# Altium schematic symbol library Chronos.SchLib: 154 symbols (part 3 of 4)
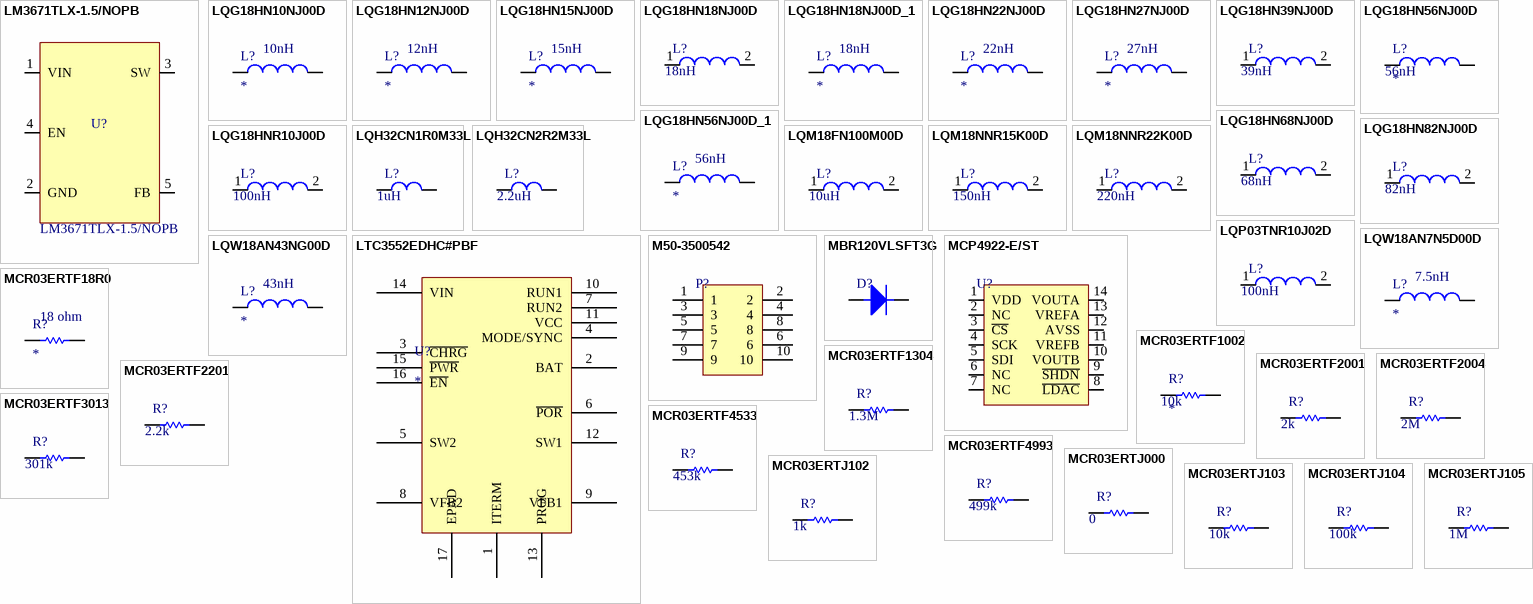
[diagram p5: symbols LM3671TLX-1.5/NOPB to MCR03ERTJ105]

## LQG18HNR10J00D
designator L?  (value not drawn)
INDUCTOR 100NH 300MA 0603; Manufacturer: Murata Electronics North America; Manufacturer Part Number: LQG18HNR10J00D; Type: Multilayer; Material - Core: Air; Tolerance: ±5%; Shielding: Unshielded; DC Resistance (DCR): 900 mOhm Max; Q @ Freq: 12 @ 100MHz; Frequency - Self Resonant: 800MHz; Frequency - Test: 100MHz; Supplier 1: Digi-Key; RoHS: RoHS Compliant; Category: Inductors, Coils, Chokes; Stock 1: 8292; Pricing 1: 1=0.26, 10=0.24, 25=0.216, 50=0.1872, 100=0.168, 250=0.156, 500=0.144, 750=0.1368, 1000=0.1248 (USD); Packaging: Cut Tape (CT); Inductance: 100nH; Current Rating: 300mA; Current - Saturation: -; Operating Temperature: -40°C ~ 85°C; Mounting Type: Surface Mount; Package / Case: 0603 (1608 Metric); Size / Dimension: 0.063" L x 0.031" W (1.60mm x 0.80mm); Height - Seated (Max): 0.037" (0.95mm); Supplier Device Package: 0603 (1608 Metric); ComponentLink1URL: http://search.murata.co.jp/Ceramy/image/img/PDF/ENG/L0075S0083LQG18H.pdf; ComponentLink1Description: http://search.murata.co.jp/Ceramy/image/img/PDF/ENG/L0075S0083LQG18H.pdf
footprint INDC1608X08N (Chip Inductor, 2-Leads, Body 1.60x0.80mm, IPC Medium Density)
pins: 1, 2

## LQH32CN1R0M33L
designator L?  (value not drawn)
FIXED IND 1UH 1A 60 MOHM SMD; Manufacturer: Murata Electronics North America; Manufacturer Part Number: LQH32CN1R0M33L; Type: Wirewound; Material - Core: Ferrite; Inductance: 1µH; Tolerance: ±20%; Shielding: Unshielded; DC Resistance (DCR): 60 mOhm; Frequency - Self Resonant: 100MHz; Frequency - Test: 1MHz; Supplier 1: Digi-Key; RoHS: RoHS Compliant; Category: Inductors, Coils, Chokes; Stock 1: 6090; Pricing 1: 1=0.32, 10=0.291, 25=0.2584, 50=0.2262, 100=0.21, 250=0.1938, 500=0.18412, 750=0.16796, 1000=0.14858 (USD); Packaging: Cut Tape (CT); Current Rating: 1A; Current - Saturation: -; Q @ Freq: -; Operating Temperature: -40°C ~ 85°C; Mounting Type: Surface Mount; Package / Case: 1210 (3225 Metric); Size / Dimension: 0.126" L x 0.098" W (3.20mm x 2.50mm); Height - Seated (Max): 0.086" (2.20mm); Supplier Device Package: 1210 (3225 Metric); ComponentLink1URL: http://search.murata.co.jp/Ceramy/image/img/PDF/ENG/L0080S0140LQH32C_23~33.pdf; ComponentLink1Description: http://search.murata.co.jp/Ceramy/image/img/PDF/ENG/L0080S0140LQH32C_23~33.pdf
footprint INDC3225X22N (Chip Inductor, 2-Leads, Body 3.20x2.50mm, IPC Medium Density)
pins: 1, 2
text: 1uH

## LQH32CN2R2M33L
designator L?  (value not drawn)
FIXED IND 2.2UH 790MA 97 MOHM; Manufacturer: Murata Electronics North America; Manufacturer Part Number: LQH32CN2R2M33L; Type: Wirewound; Material - Core: Ferrite; Inductance: 2.2µH; Tolerance: ±20%; Shielding: Unshielded; DC Resistance (DCR): 97 mOhm; Frequency - Self Resonant: 64MHz; Frequency - Test: 1MHz; Supplier 1: Digi-Key; RoHS: RoHS Compliant; Category: Inductors, Coils, Chokes; Stock 1: 5783; Pricing 1: 1=0.32, 10=0.291, 25=0.2584, 50=0.2262, 100=0.21, 250=0.1938, 500=0.18412, 750=0.16796, 1000=0.14858 (USD); Packaging: Cut Tape (CT); Current Rating: 790mA; Current - Saturation: -; Q @ Freq: -; Operating Temperature: -40°C ~ 85°C; Mounting Type: Surface Mount; Package / Case: 1210 (3225 Metric); Size / Dimension: 0.126" L x 0.098" W (3.20mm x 2.50mm); Height - Seated (Max): 0.086" (2.20mm); Supplier Device Package: 1210 (3225 Metric); ComponentLink1URL: http://search.murata.co.jp/Ceramy/image/img/PDF/ENG/L0080S0140LQH32C_23~33.pdf; ComponentLink1Description: http://search.murata.co.jp/Ceramy/image/img/PDF/ENG/L0080S0140LQH32C_23~33.pdf
footprint INDC3225X22N (Chip Inductor, 2-Leads, Body 3.20x2.50mm, IPC Medium Density)
pins: 1, 2
text: 2.2uH

## LQM18FN100M00D
designator L?  (value not drawn)
INDUCTOR 10UH 50MA 0603; Manufacturer: Murata Electronics North America; Manufacturer Part Number: LQM18FN100M00D; Type: Multilayer; Inductance: 10µH; Tolerance: ±20%; Shielding: Shielded; DC Resistance (DCR): 900 mOhm; Frequency - Self Resonant: 30MHz; Frequency - Test: 1MHz; Supplier 1: Digi-Key; RoHS: RoHS Compliant; Category: Inductors, Coils, Chokes; Stock 1: 28547; Pricing 1: 1=0.14, 10=0.13, 25=0.1164, 50=0.101, 100=0.0907, 250=0.08416, 500=0.0777, 750=0.07381, 1000=0.06734 (USD); Packaging: Cut Tape (CT); Material - Core: -; Current Rating: 50mA; Current - Saturation: -; Q @ Freq: -; Operating Temperature: -55°C ~ 125°C; Mounting Type: Surface Mount; Package / Case: 0603 (1608 Metric); Size / Dimension: 0.063" L x 0.031" W (1.60mm x 0.80mm); Height - Seated (Max): 0.035" (0.90mm); Supplier Device Package: 0603 (1608 Metric); ComponentLink1URL: http://search.murata.co.jp/Ceramy/image/img/PDF/ENG/L0075S0097LQM18F.pdf; ComponentLink1Description: http://search.murata.co.jp/Ceramy/image/img/PDF/ENG/L0075S0097LQM18F.pdf
footprint INDC1608X08N (Chip Inductor, 2-Leads, Body 1.60x0.80mm, IPC Medium Density)
pins: 1, 2
text: 10uH

## LQM18NNR15K00D
designator L?  (value not drawn)
INDUCTOR 150NH 50MA 0603; Manufacturer: Murata Electronics North America; Manufacturer Part Number: LQM18NNR15K00D; Type: Multilayer; Material - Core: Ferrite; Tolerance: ±10%; Shielding: Shielded; DC Resistance (DCR): 600 mOhm Max; Q @ Freq: 15 @ 25MHz; Frequency - Self Resonant: 180MHz; Frequency - Test: 25MHz; Supplier 1: Digi-Key; RoHS: RoHS Compliant; Category: Inductors, Coils, Chokes; Stock 1: 13573; Pricing 1: 1=0.21, 10=0.193, 25=0.1736, 50=0.1506, 100=0.1351, 250=0.12544, 500=0.1158, 750=0.11001, 1000=0.10036 (USD); Packaging: Cut Tape (CT); Inductance: 150nH; Current Rating: 50mA; Current - Saturation: -; Operating Temperature: -40°C ~ 85°C; Mounting Type: Surface Mount; Package / Case: 0603 (1608 Metric); Size / Dimension: 0.063" L x 0.031" W (1.60mm x 0.80mm); Height - Seated (Max): 0.035" (0.90mm); Supplier Device Package: 0603 (1608 Metric); ComponentLink1URL: http://search.murata.co.jp/Ceramy/image/img/PDF/ENG/L0075S0092LQM18N.pdf; ComponentLink1Description: http://search.murata.co.jp/Ceramy/image/img/PDF/ENG/L0075S0092LQM18N.pdf
footprint INDC1608X08N (Chip Inductor, 2-Leads, Body 1.60x0.80mm, IPC Medium Density)
pins: 1, 2

## LQM18NNR22K00D
designator L?  (value not drawn)
INDUCTOR 220NH 50MA 0603; Manufacturer: Murata Electronics North America; Manufacturer Part Number: LQM18NNR22K00D; Type: Multilayer; Material - Core: Ferrite; Tolerance: ±10%; Shielding: Shielded; DC Resistance (DCR): 800 mOhm Max; Q @ Freq: 15 @ 25MHz; Frequency - Self Resonant: 150MHz; Frequency - Test: 25MHz; Supplier 1: Digi-Key; RoHS: RoHS Compliant; Category: Inductors, Coils, Chokes; Stock 1: 10133; Pricing 1: 1=0.21, 10=0.193, 25=0.1736, 50=0.1506, 100=0.1351, 250=0.12544, 500=0.1158, 750=0.11001, 1000=0.10036 (USD); Packaging: Cut Tape (CT); Inductance: 220nH; Current Rating: 50mA; Current - Saturation: -; Operating Temperature: -40°C ~ 85°C; Mounting Type: Surface Mount; Package / Case: 0603 (1608 Metric); Size / Dimension: 0.063" L x 0.031" W (1.60mm x 0.80mm); Height - Seated (Max): 0.035" (0.90mm); Supplier Device Package: 0603 (1608 Metric); ComponentLink1URL: http://search.murata.co.jp/Ceramy/image/img/PDF/ENG/L0075S0092LQM18N.pdf; ComponentLink1Description: http://search.murata.co.jp/Ceramy/image/img/PDF/ENG/L0075S0092LQM18N.pdf
footprint INDC1608X08N (Chip Inductor, 2-Leads, Body 1.60x0.80mm, IPC Medium Density)
pins: 1, 2

## LQP03TNR10J02D
designator L?  (value not drawn)
FIXED IND 100NH 80MA 10 OHM SMD; Manufacturer: Murata Electronics North America; Manufacturer Part Number: LQP03TNR10J02D; Type: Thin Film; Material - Core: Non-Magnetic; Tolerance: ±5%; Shielding: Unshielded; DC Resistance (DCR): 10 Ohm Max; Q @ Freq: 8 @ 300MHz; Frequency - Self Resonant: 900MHz; Frequency - Test: 300MHz; Supplier 1: Digi-Key; RoHS: RoHS Compliant; Category: Inductors, Coils, Chokes; Stock 1: 45163; Pricing 1: 1=0.1, 10=0.05, 25=0.0452, 50=0.0406, 100=0.0351, 250=0.03152, 500=0.02926, 750=0.027, 1000=0.02565 (USD); Packaging: Cut Tape (CT); Inductance: 100nH; Current Rating: 80mA; Current - Saturation: -; Ratings: -; Operating Temperature: -55°C ~ 125°C; Mounting Type: Surface Mount; Package / Case: 0201 (0603 Metric); Size / Dimension: 0.024" L x 0.012" W (0.60mm x 0.30mm); Height - Seated (Max): 0.013" (0.33mm); ComponentLink1URL: http://search.murata.co.jp/Ceramy/image/img/P02/JELF243C-0015.pdf; ComponentLink1Description: http://search.murata.co.jp/Ceramy/image/img/P02/JELF243C-0015.pdf; Supplier Part Number 1: 490-6742-1-ND
footprint INDC1608X08N (Chip Inductor, 2-Leads, Body 1.60x0.80mm, IPC Medium Density)
pins: 1, 2

## LQW18AN7N5D00D
designator L?  value 7.5nH
FIXED IND 7.5NH 750MA 82 MOHM; Manufacturer: Murata Electronics North America; Manufacturer Part Number: LQW18AN7N5D00D; Type: Wirewound; Material - Core: Non-Magnetic; Tolerance: ±0.5nH; Shielding: Unshielded; DC Resistance (DCR): 82 mOhm Max; Q @ Freq: 35 @ 250MHz; Frequency - Self Resonant: 6GHz; Frequency - Test: 100MHz; Supplier 1: Digi-Key; RoHS: RoHS Compliant; Category: Inductors, Coils, Chokes; Stock 1: 6284; Pricing 1: 1=0.17, 10=0.15, 25=0.1352, 50=0.117, 100=0.105, 250=0.09752, 500=0.09, 750=0.08551, 1000=0.078 (USD); Packaging: Cut Tape (CT); Inductance: 7.5nH; Current Rating: 750mA; Current - Saturation: -; Ratings: -; Operating Temperature: -55°C ~ 125°C; Mounting Type: Surface Mount; Package / Case: 0603 (1608 Metric); Size / Dimension: 0.063" L x 0.031" W (1.60mm x 0.80mm); Height - Seated (Max): 0.039" (1.00mm); ComponentLink1URL: http://search.murata.co.jp/Ceramy/image/img/PDF/ENG/L0075S0080LQW18A_00.pdf; ComponentLink1Description: http://search.murata.co.jp/Ceramy/image/img/PDF/ENG/L0075S0080LQW18A_00.pdf; Supplier Part Number 1: 490-1166-1-ND
footprint INDC1608X08N (Chip Inductor, 2-Leads, Body 1.60x0.80mm, IPC Medium Density)
pins: 1, 2

## LQW18AN43NG00D
designator L?  value 43nH
FIXED IND 43NH 380MA 290 MOHM; Manufacturer: Murata Electronics North America; Manufacturer Part Number: LQW18AN43NG00D; Type: Wirewound; Material - Core: Non-Magnetic; Tolerance: ±2%; Shielding: Unshielded; DC Resistance (DCR): 290 mOhm Max; Q @ Freq: 40 @ 200MHz; Frequency - Self Resonant: 2.7GHz; Frequency - Test: 100MHz; Supplier 1: Digi-Key; RoHS: RoHS Compliant; Category: Inductors, Coils, Chokes; Stock 1: 7260; Pricing 1: 1=0.18, 10=0.165, 25=0.1484, 50=0.1288, 100=0.1155, 250=0.10724, 500=0.099, 750=0.09405, 1000=0.0858 (USD); Packaging: Cut Tape (CT); Inductance: 43nH; Current Rating: 380mA; Current - Saturation: -; Ratings: -; Operating Temperature: -55°C ~ 125°C; Mounting Type: Surface Mount; Package / Case: 0603 (1608 Metric); Size / Dimension: 0.063" L x 0.031" W (1.60mm x 0.80mm); Height - Seated (Max): 0.039" (1.00mm); ComponentLink1URL: http://search.murata.co.jp/Ceramy/image/img/PDF/ENG/L0075S0080LQW18A_00.pdf; ComponentLink1Description: http://search.murata.co.jp/Ceramy/image/img/PDF/ENG/L0075S0080LQW18A_00.pdf; Supplier Part Number 1: 490-6892-1-ND
footprint INDC1608X08N (Chip Inductor, 2-Leads, Body 1.60x0.80mm, IPC Medium Density)
pins: 1, 2

## LTC3552EDHC#PBF
designator U?
IC CHARGER BATT LI-ION 16-DFN; Manufacturer: Linear Technology; Manufacturer Part Number: LTC3552EDHC#PBF; Function: Charge Management; Voltage - Supply: 4.25 V ~ 8 V; Supplier 1: Digi-Key; RoHS: RoHS Compliant; Category: Integrated Circuits (ICs); Stock 1: 0; Pricing 1: 584=2.71 (USD); Packaging: Tube; Battery Chemistry: Li-Ion; Operating Temperature: -40°C ~ 85°C; Mounting Type: Surface Mount; Package / Case: 16-WFDFN Exposed Pad; Supplier Device Package: 16-DFN (5x3); ComponentLink1URL: http://cds.linear.com/docs/en/datasheet/3552f.pdf; ComponentLink1Description: http://cds.linear.com/docs/en/datasheet/3552f.pdf
footprint DFN16P5MMX3MM (SON, 16-Leads, Body 5.00x3.00mm, Pitch 0.50mm, Thermal Pad 4.40x1.09mm, IPC Medium Density)
pins: 1 ITERM, 2 BAT, 3 ~{CHRG}, 4 MODE/SYNC, 5 SW2, 6 ~{POR}, 7 RUN2, 8 VFB2, 9 VFB1, 10 RUN1, 11 VCC, 12 SW1, 13 PROG, 14 VIN, 15 ~{PWR}, 16 ~{EN}, 17 EPAD

## M50-3500542
designator P?  (value not drawn)
CONN HDR 1.27MM VERT AU 10POS; Manufacturer: Harwin Inc; Manufacturer Part Number: M50-3500542; Connector Type: Unshrouded; Number of Positions: 10; Number of Positions Loaded: All; Pitch: 0.050" (1.27mm); Molding Height Above Board: 0.039" (1.00mm); Supplier 1: Digi-Key; RoHS: RoHS Compliant; Category: Connectors, Interconnects; Stock 1: 16006; Pricing 1: 1=1.16, 10=1.017, 25=0.9576, 50=0.9178, 100=0.8778, 250=0.798, 500=0.7182, 1000=0.6384, 2500=0.57855 (USD); Packaging: Bulk; Number of Rows: 2; Row Spacing: 0.050" (1.27mm); Height Stacking (Mating): -; Contact Mating Length: 0.118" (3.00mm); Mounting Type: Through Hole; Termination: Solder; Contact Finish: Gold; Contact Finish Thickness: 5.9µin (0.15µm); Features: -; Color: Black; ComponentLink1URL: http://harwin.com/includes/pdfs/M50-350.pdf; ComponentLink1Description: http://harwin.com/includes/pdfs/M50-350.pdf
footprint M50
pins: 1, 2, 3, 4, 5, 6, 7, 8, 9, 10

## MBR120VLSFT3G
designator D?  (value not drawn)
DIODE SCHOTTKY 20V 1A SOD123FL; Manufacturer: ON Semiconductor; Manufacturer Part Number: MBR120VLSFT3G; Voltage - Forward (Vf) (Max) @ If: 340mV @ 1A; Speed: Fast Recovery =< 500ns, > 200mA (Io); Current - Reverse Leakage @ Vr: 600µA @ 20V; Supplier 1: Digi-Key; RoHS: RoHS Compliant; Category: Discrete Semiconductor Products; Stock 1: 29828; Pricing 1: 1=0.38, 10=0.305, 100=0.2082, 500=0.15586, 1000=0.11674 (USD); Packaging: Cut Tape (CT); Diode Type: Schottky; Voltage - DC Reverse (Vr) (Max): 20V; Current - Average Rectified (Io): 1A; Reverse Recovery Time (trr): -; Capacitance @ Vr, F: -; Mounting Type: Surface Mount; Package / Case: SOD-123F; Supplier Device Package: SOD-123FL; Operating Temperature - Junction: -65°C ~ 125°C; ComponentLink1URL: http://www.onsemi.com/pub_link/Collateral/MBR120VLSFT1-D.PDF; ComponentLink1Description: http://www.onsemi.com/pub_link/Collateral/MBR120VLSFT1-D.PDF; Supplier Part Number 1: MBR120VLSFT3GOSCT-ND
footprint SODFL360X98-2N (SODFL, 2-Leads, Body 1.65x3.60mm, IPC Medium Density)
pins: 1, 2

## MCP4922-E/ST
designator U?  (value not drawn)
IC DAC 12BIT DUAL W/SPI 14TSSOP; Manufacturer: Microchip Technology; Manufacturer Part Number: MCP4922-E/ST; Settling Time: 4.5µs; Number of Bits: 12; Data Interface: Serial, SPI™; Number of Converters: 2; Voltage Supply Source: Single Supply; Number of Outputs and Type: 2 Voltage, Unipolar; 2 Voltage, Bipolar; Supplier 1: Digi-Key; RoHS: RoHS Compliant; Category: Integrated Circuits (ICs); Stock 1: 461; Pricing 1: 1=3.14, 10=2.62, 25=2.19, 100=1.99 (USD); Packaging: Tube; Operating Temperature: -40°C ~ 125°C; Mounting Type: Surface Mount; Package / Case: 14-TSSOP (0.173", 4.40mm Width); Supplier Device Package: 14-TSSOP; Sampling Rate (Per Second): *; ComponentLink1URL: http://www.microchip.com/mymicrochip/filehandler.aspx?ddocname=en547858; ComponentLink1Description: http://www.microchip.com/mymicrochip/filehandler.aspx?ddocname=en547858
footprint TSOP65P640X110-14N (TSOP, 14-Leads, Body 5.00x4.40mm, Pitch 0.65mm, IPC Medium Density)
pins: 1 VDD, 2 NC, 3 ~{CS}, 4 SCK, 5 SDI, 6 NC, 7 NC, 8 ~{LDAC}, 9 ~{SHDN}, 10 VOUTB, 11 VREFB, 12 AVSS, 13 VREFA, 14 VOUTA

## MCR03ERTF18R0
designator R?  value 18 ohm
RES SMD 18 OHM 1% 1/10W 0603; Manufacturer: Rohm Semiconductor; Manufacturer Part Number: MCR03ERTF18R0; Resistance (Ohms): 18; Power (Watts): 0.1W, 1/10W; Temperature Coefficient: ±100ppm/°C; Supplier 1: Digi-Key; RoHS: RoHS Compliant; Category: Resistors; Stock 1: 15000; Pricing 1: 5000=0.0026, 10000=0.00226, 25000=0.00199, 50000=0.00182, 125000=0.00179 (USD); Packaging: Tape & Reel (TR); Tolerance: ±1%; Composition: Thick Film; Features: -; Operating Temperature: -55°C ~ 155°C; Package / Case: 0603 (1608 Metric); Supplier Device Package: 0603 (1608 Metric); Size / Dimension: 0.063" L x 0.031" W (1.60mm x 0.80mm); Height: 0.022" (0.55mm); Number of Terminations: 2; ComponentLink1URL: http://rohmfs.rohm.com/en/products/databook/datasheet/passive/resistor/chip_resistor/mcr_g.pdf; ComponentLink1Description: http://rohmfs.rohm.com/en/products/databook/datasheet/passive/resistor/chip_resistor/mcr_g.pdf; Supplier Part Number 1: RHM18CFTR-ND
footprint RESC1608X06N (0603) (Chip Resistor, 2-Leads, Body 1.60x0.80mm, IPC Medium Density)
pins: 1, 2

## MCR03ERTF1002
designator R?  value 10k
RES SMD 10K OHM 1% 1/10W 0603; Manufacturer: Rohm Semiconductor; Manufacturer Part Number: MCR03ERTF1002; Power (Watts): 0.1W, 1/10W; Temperature Coefficient: ±100ppm/°C; Supplier 1: Digi-Key; RoHS: RoHS Compliant; Category: Resistors; Stock 1: 30590; Pricing 1: 1=0.1, 10=0.022, 25=0.016, 100=0.0089, 250=0.0068, 500=0.00542, 1000=0.00399 (USD); Packaging: Digi-Reel®; Resistance (Ohms): 10k; Tolerance: ±1%; Composition: Thick Film; Features: -; Operating Temperature: -55°C ~ 155°C; Package / Case: 0603 (1608 Metric); Supplier Device Package: 0603 (1608 Metric); Size / Dimension: 0.063" L x 0.031" W (1.60mm x 0.80mm); Height: 0.022" (0.55mm); Number of Terminations: 2; ComponentLink1URL: http://rohmfs.rohm.com/en/products/databook/datasheet/passive/resistor/chip_resistor/mcr_g.pdf; ComponentLink1Description: http://rohmfs.rohm.com/en/products/databook/datasheet/passive/resistor/chip_resistor/mcr_g.pdf; Supplier Part Number 1: RHM10.0KCFDKR-ND
footprint RESC1608X06N (0603) (Chip Resistor, 2-Leads, Body 1.60x0.80mm, IPC Medium Density)
pins: 1, 2

## MCR03ERTF1304
designator R?  (value not drawn)
RES SMD 1.3M OHM 1% 1/10W 0603; Manufacturer: Rohm Semiconductor; Manufacturer Part Number: MCR03ERTF1304; Power (Watts): 0.1W, 1/10W; Temperature Coefficient: ±100ppm/°C; Supplier 1: Digi-Key; RoHS: RoHS Compliant; Category: Resistors; Stock 1: 9271; Pricing 1: 1=0.1, 10=0.011, 25=0.0084, 100=0.0047, 250=0.00356, 500=0.00286, 1000=0.0021 (USD); Packaging: Cut Tape (CT); Resistance (Ohms): 1.3M; Tolerance: ±1%; Composition: Thick Film; Features: -; Operating Temperature: -55°C ~ 155°C; Package / Case: 0603 (1608 Metric); Supplier Device Package: 0603 (1608 Metric); Size / Dimension: 0.063" L x 0.031" W (1.60mm x 0.80mm); Height: 0.022" (0.55mm); Number of Terminations: 2; ComponentLink1URL: http://rohmfs.rohm.com/en/products/databook/datasheet/passive/resistor/chip_resistor/mcr_g.pdf; ComponentLink1Description: http://rohmfs.rohm.com/en/products/databook/datasheet/passive/resistor/chip_resistor/mcr_g.pdf
footprint RESC1608X06N (0603) (Chip Resistor, 2-Leads, Body 1.60x0.80mm, IPC Medium Density)
pins: 1, 2

## MCR03ERTF2001
designator R?  (value not drawn)
RES 2K OHM 1/10W 1% 0603 SMD; Manufacturer: Rohm Semiconductor; Manufacturer Part Number: MCR03ERTF2001; Power (Watts): 0.1W, 1/10W; Temperature Coefficient: ±100ppm/°C; Supplier 1: Digi-Key; RoHS: RoHS Compliant; Category: Resistors; Stock 1: 84360; Pricing 1: 1=0.1, 10=0.011, 25=0.0084, 100=0.0047, 250=0.00356, 500=0.00286, 1000=0.0021 (USD); Packaging: Cut Tape (CT); Resistance (Ohms): 2k; Tolerance: ±1%; Composition: Thick Film; Features: -; Operating Temperature: -55°C ~ 155°C; Package / Case: 0603 (1608 Metric); Supplier Device Package: 0603 (1608 Metric); Size / Dimension: 0.063" L x 0.031" W (1.60mm x 0.80mm); Height: 0.022" (0.55mm); Number of Terminations: 2; ComponentLink1URL: http://rohmfs.rohm.com/en/products/databook/datasheet/passive/resistor/chip_resistor/mcr_g.pdf; ComponentLink1Description: http://rohmfs.rohm.com/en/products/databook/datasheet/passive/resistor/chip_resistor/mcr_g.pdf
footprint RESC1608X06N (0603) (Chip Resistor, 2-Leads, Body 1.60x0.80mm, IPC Medium Density)
pins: 1, 2

## MCR03ERTF2004
designator R?  (value not drawn)
RES 2M OHM 1/10W 1% 0603 SMD; Manufacturer: Rohm Semiconductor; Manufacturer Part Number: MCR03ERTF2004; Power (Watts): 0.1W, 1/10W; Temperature Coefficient: ±200ppm/°C; Supplier 1: Digi-Key; RoHS: RoHS Compliant; Category: Resistors; Stock 1: 3350; Pricing 1: 1=0.1, 10=0.013, 25=0.0116, 100=0.0083, 250=0.00492, 500=0.00408, 1000=0.00278 (USD); Packaging: Cut Tape (CT); Resistance (Ohms): 2M; Tolerance: ±1%; Composition: Thick Film; Features: -; Package / Case: 0603 (1608 Metric); Supplier Device Package: 0603 (1608 Metric); Size / Dimension: 0.063" L x 0.031" W (1.60mm x 0.80mm); Height: 0.022" (0.55mm); Number of Terminations: 2; ComponentLink1URL: http://rohmfs.rohm.com/en/products/databook/datasheet/passive/resistor/chip_resistor/mcr_g.pdf; ComponentLink1Description: http://rohmfs.rohm.com/en/products/databook/datasheet/passive/resistor/chip_resistor/mcr_g.pdf
footprint RESC1608X06N (0603) (Chip Resistor, 2-Leads, Body 1.60x0.80mm, IPC Medium Density)
pins: 1, 2

## MCR03ERTF2201
designator R?  (value not drawn)
RES 2.2K OHM 1/10W 1% 0603 SMD; Manufacturer: Rohm Semiconductor; Manufacturer Part Number: MCR03ERTF2201; Power (Watts): 0.1W, 1/10W; Temperature Coefficient: ±100ppm/°C; Supplier 1: Digi-Key; RoHS: RoHS Compliant; Category: Resistors; Stock 1: 4087; Pricing 1: 1=0.1, 10=0.014, 25=0.0104, 100=0.0058, 250=0.00444, 500=0.00356, 1000=0.00262 (USD); Packaging: Cut Tape (CT); Resistance (Ohms): 2.2k; Tolerance: ±1%; Composition: Thick Film; Features: -; Package / Case: 0603 (1608 Metric); Supplier Device Package: 0603 (1608 Metric); Size / Dimension: 0.063" L x 0.031" W (1.60mm x 0.80mm); Height: 0.022" (0.55mm); Number of Terminations: 2; ComponentLink1URL: http://rohmfs.rohm.com/en/products/databook/datasheet/passive/resistor/chip_resistor/mcr_g.pdf; ComponentLink1Description: http://rohmfs.rohm.com/en/products/databook/datasheet/passive/resistor/chip_resistor/mcr_g.pdf
footprint RESC1608X06N (0603) (Chip Resistor, 2-Leads, Body 1.60x0.80mm, IPC Medium Density)
pins: 1, 2

## MCR03ERTF3013
designator R?  (value not drawn)
RES SMD 301K OHM 1% 1/10W 0603; Manufacturer: Rohm Semiconductor; Manufacturer Part Number: MCR03ERTF3013; Power (Watts): 0.1W, 1/10W; Temperature Coefficient: ±100ppm/°C; Supplier 1: Digi-Key; RoHS: RoHS Compliant; Category: Resistors; Stock 1: 2593; Pricing 1: 1=0.1, 10=0.011, 25=0.0084, 100=0.0047, 250=0.00356, 500=0.00286, 1000=0.0021 (USD); Packaging: Cut Tape (CT); Resistance (Ohms): 301k; Tolerance: ±1%; Composition: Thick Film; Features: -; Operating Temperature: -55°C ~ 155°C; Package / Case: 0603 (1608 Metric); Supplier Device Package: 0603 (1608 Metric); Size / Dimension: 0.063" L x 0.031" W (1.60mm x 0.80mm); Height: 0.022" (0.55mm); Number of Terminations: 2; ComponentLink1URL: http://rohmfs.rohm.com/en/products/databook/datasheet/passive/resistor/chip_resistor/mcr_g.pdf; ComponentLink1Description: http://rohmfs.rohm.com/en/products/databook/datasheet/passive/resistor/chip_resistor/mcr_g.pdf
footprint RESC1608X06N (0603) (Chip Resistor, 2-Leads, Body 1.60x0.80mm, IPC Medium Density)
pins: 1, 2

## MCR03ERTF4533
designator R?  (value not drawn)
RES SMD 453K OHM 1% 1/10W 0603; Manufacturer: Rohm Semiconductor; Manufacturer Part Number: MCR03ERTF4533; Power (Watts): 0.1W, 1/10W; Temperature Coefficient: ±100ppm/°C; Supplier 1: Digi-Key; RoHS: RoHS Compliant; Category: Resistors; Stock 1: 3292; Pricing 1: 1=0.1, 10=0.011, 25=0.0084, 100=0.0047, 250=0.00356, 500=0.00286, 1000=0.0021 (USD); Packaging: Cut Tape (CT); Resistance (Ohms): 453k; Tolerance: ±1%; Composition: Thick Film; Features: -; Operating Temperature: -55°C ~ 155°C; Package / Case: 0603 (1608 Metric); Supplier Device Package: 0603 (1608 Metric); Size / Dimension: 0.063" L x 0.031" W (1.60mm x 0.80mm); Height: 0.022" (0.55mm); Number of Terminations: 2; ComponentLink1URL: http://rohmfs.rohm.com/en/products/databook/datasheet/passive/resistor/chip_resistor/mcr_g.pdf; ComponentLink1Description: http://rohmfs.rohm.com/en/products/databook/datasheet/passive/resistor/chip_resistor/mcr_g.pdf
footprint RESC1608X06N (0603) (Chip Resistor, 2-Leads, Body 1.60x0.80mm, IPC Medium Density)
pins: 1, 2

## MCR03ERTF4993
designator R?  (value not drawn)
RES 499K OHM 1/10W 1% 0603 SMD; Manufacturer: Rohm Semiconductor; Manufacturer Part Number: MCR03ERTF4993; Power (Watts): 0.1W, 1/10W; Temperature Coefficient: ±100ppm/°C; Supplier 1: Digi-Key; RoHS: RoHS Compliant; Category: Resistors; Stock 1: 5000; Pricing 1: 5000=0.00171, 10000=0.00149, 25000=0.00131, 50000=0.0012, 125000=0.00117 (USD); Packaging: Tape & Reel (TR); Resistance (Ohms): 499k; Tolerance: ±1%; Composition: Thick Film; Features: -; Package / Case: 0603 (1608 Metric); Supplier Device Package: 0603 (1608 Metric); Size / Dimension: 0.063" L x 0.031" W (1.60mm x 0.80mm); Height: 0.022" (0.55mm); Number of Terminations: 2; ComponentLink1URL: http://rohmfs.rohm.com/en/products/databook/datasheet/passive/resistor/chip_resistor/mcr_g.pdf; ComponentLink1Description: http://rohmfs.rohm.com/en/products/databook/datasheet/passive/resistor/chip_resistor/mcr_g.pdf
footprint RESC1608X06N (0603) (Chip Resistor, 2-Leads, Body 1.60x0.80mm, IPC Medium Density)
pins: 1, 2

## MCR03ERTJ000
designator R?  (value not drawn)
RES 0.0 OHM 1/10W JUMP 0603 SMD; Manufacturer: Rohm Semiconductor; Manufacturer Part Number: MCR03ERTJ000; Resistance (Ohms): 0.0; Tolerance: Jumper; Power (Watts): 0.1W, 1/10W; Supplier 1: Digi-Key; RoHS: RoHS Compliant; Category: Resistors; Stock 1: 127296; Pricing 1: 1=0.1, 25=0.0064, 100=0.0035, 250=0.00268, 500=0.00214, 1000=0.00157 (USD); Packaging: Cut Tape (CT); Composition: Thick Film; Features: -; Temperature Coefficient: -; Package / Case: 0603 (1608 Metric); Supplier Device Package: 0603 (1608 Metric); Size / Dimension: 0.063" L x 0.031" W (1.60mm x 0.80mm); Height: 0.022" (0.55mm); Number of Terminations: 2; ComponentLink1URL: http://rohmfs.rohm.com/en/products/databook/datasheet/passive/resistor/chip_resistor/mcr_g.pdf; ComponentLink1Description: http://rohmfs.rohm.com/en/products/databook/datasheet/passive/resistor/chip_resistor/mcr_g.pdf
footprint RESC1608X06N (0603) (Chip Resistor, 2-Leads, Body 1.60x0.80mm, IPC Medium Density)
pins: 1, 2
text: 0

## MCR03ERTJ102
designator R?  (value not drawn)
RES 1K OHM 1/10W 5% 0603 SMD; Manufacturer: Rohm Semiconductor; Manufacturer Part Number: MCR03ERTJ102; Power (Watts): 0.1W, 1/10W; Temperature Coefficient: ±200ppm/°C; Supplier 1: Digi-Key; RoHS: RoHS Compliant; Category: Resistors; Stock 1: 72962; Pricing 1: 1=0.1, 10=0.01, 25=0.0072, 100=0.0042, 250=0.00316, 500=0.00254, 1000=0.00187 (USD); Packaging: Cut Tape (CT); Resistance (Ohms): 1k; Tolerance: ±5%; Composition: Thick Film; Features: -; Operating Temperature: -55°C ~ 155°C; Package / Case: 0603 (1608 Metric); Supplier Device Package: 0603 (1608 Metric); Size / Dimension: 0.063" L x 0.031" W (1.60mm x 0.80mm); Height: 0.022" (0.55mm); Number of Terminations: 2; ComponentLink1URL: http://rohmfs.rohm.com/en/products/databook/datasheet/passive/resistor/chip_resistor/mcr_g.pdf; ComponentLink1Description: http://rohmfs.rohm.com/en/products/databook/datasheet/passive/resistor/chip_resistor/mcr_g.pdf
footprint RESC1608X06N (0603) (Chip Resistor, 2-Leads, Body 1.60x0.80mm, IPC Medium Density)
pins: 1, 2

## MCR03ERTJ103
designator R?  (value not drawn)
RES 10K OHM 1/10W 5% 0603 SMD; Manufacturer: Rohm Semiconductor; Manufacturer Part Number: MCR03ERTJ103; Power (Watts): 0.1W, 1/10W; Temperature Coefficient: ±200ppm/°C; Supplier 1: Digi-Key; RoHS: RoHS Compliant; Category: Resistors; Stock 1: 330000; Pricing 1: 5000=0.00103, 10000=0.00089, 25000=0.00078, 50000=0.00072, 125000=0.0007 (USD); Packaging: Tape & Reel (TR); Resistance (Ohms): 10k; Tolerance: ±5%; Composition: Thick Film; Features: -; Package / Case: 0603 (1608 Metric); Supplier Device Package: 0603 (1608 Metric); Size / Dimension: 0.063" L x 0.031" W (1.60mm x 0.80mm); Height: 0.022" (0.55mm); Number of Terminations: 2; ComponentLink1URL: http://rohmfs.rohm.com/en/products/databook/datasheet/passive/resistor/chip_resistor/mcr_g.pdf; ComponentLink1Description: http://rohmfs.rohm.com/en/products/databook/datasheet/passive/resistor/chip_resistor/mcr_g.pdf
footprint RESC1608X06N (0603) (Chip Resistor, 2-Leads, Body 1.60x0.80mm, IPC Medium Density)
pins: 1, 2

## MCR03ERTJ104
designator R?  (value not drawn)
RES 100K OHM 1/10W 5% 0603 SMD; Manufacturer: Rohm Semiconductor; Manufacturer Part Number: MCR03ERTJ104; Power (Watts): 0.1W, 1/10W; Temperature Coefficient: ±200ppm/°C; Supplier 1: Digi-Key; RoHS: RoHS Compliant; Category: Resistors; Stock 1: 70000; Pricing 1: 5000=0.00122, 10000=0.00106, 25000=0.00093, 50000=0.00085, 125000=0.00083 (USD); Packaging: Tape & Reel (TR); Resistance (Ohms): 100k; Tolerance: ±5%; Composition: Thick Film; Features: -; Operating Temperature: -55°C ~ 155°C; Package / Case: 0603 (1608 Metric); Supplier Device Package: 0603 (1608 Metric); Size / Dimension: 0.063" L x 0.031" W (1.60mm x 0.80mm); Height: 0.022" (0.55mm); Number of Terminations: 2; ComponentLink1URL: http://rohmfs.rohm.com/en/products/databook/datasheet/passive/resistor/chip_resistor/mcr_g.pdf; ComponentLink1Description: http://rohmfs.rohm.com/en/products/databook/datasheet/passive/resistor/chip_resistor/mcr_g.pdf
footprint RESC1608X06N (0603) (Chip Resistor, 2-Leads, Body 1.60x0.80mm, IPC Medium Density)
pins: 1, 2

## MCR03ERTJ105
designator R?  (value not drawn)
RES 1M OHM 1/10W 5% 0603 SMD; Manufacturer: Rohm Semiconductor; Manufacturer Part Number: MCR03ERTJ105; Power (Watts): 0.1W, 1/10W; Temperature Coefficient: ±200ppm/°C; Supplier 1: Digi-Key; RoHS: RoHS Compliant; Category: Resistors; Stock 1: 15000; Pricing 1: 5000=0.00152, 10000=0.00132, 25000=0.00116, 50000=0.00106, 125000=0.00104 (USD); Packaging: Tape & Reel (TR); Resistance (Ohms): 1M; Tolerance: ±5%; Composition: Thick Film; Features: -; Package / Case: 0603 (1608 Metric); Supplier Device Package: 0603 (1608 Metric); Size / Dimension: 0.063" L x 0.031" W (1.60mm x 0.80mm); Height: 0.022" (0.55mm); Number of Terminations: 2; ComponentLink1URL: http://rohmfs.rohm.com/en/products/databook/datasheet/passive/resistor/chip_resistor/mcr_g.pdf; ComponentLink1Description: http://rohmfs.rohm.com/en/products/databook/datasheet/passive/resistor/chip_resistor/mcr_g.pdf
footprint RESC1608X06N (0603) (Chip Resistor, 2-Leads, Body 1.60x0.80mm, IPC Medium Density)
pins: 1, 2

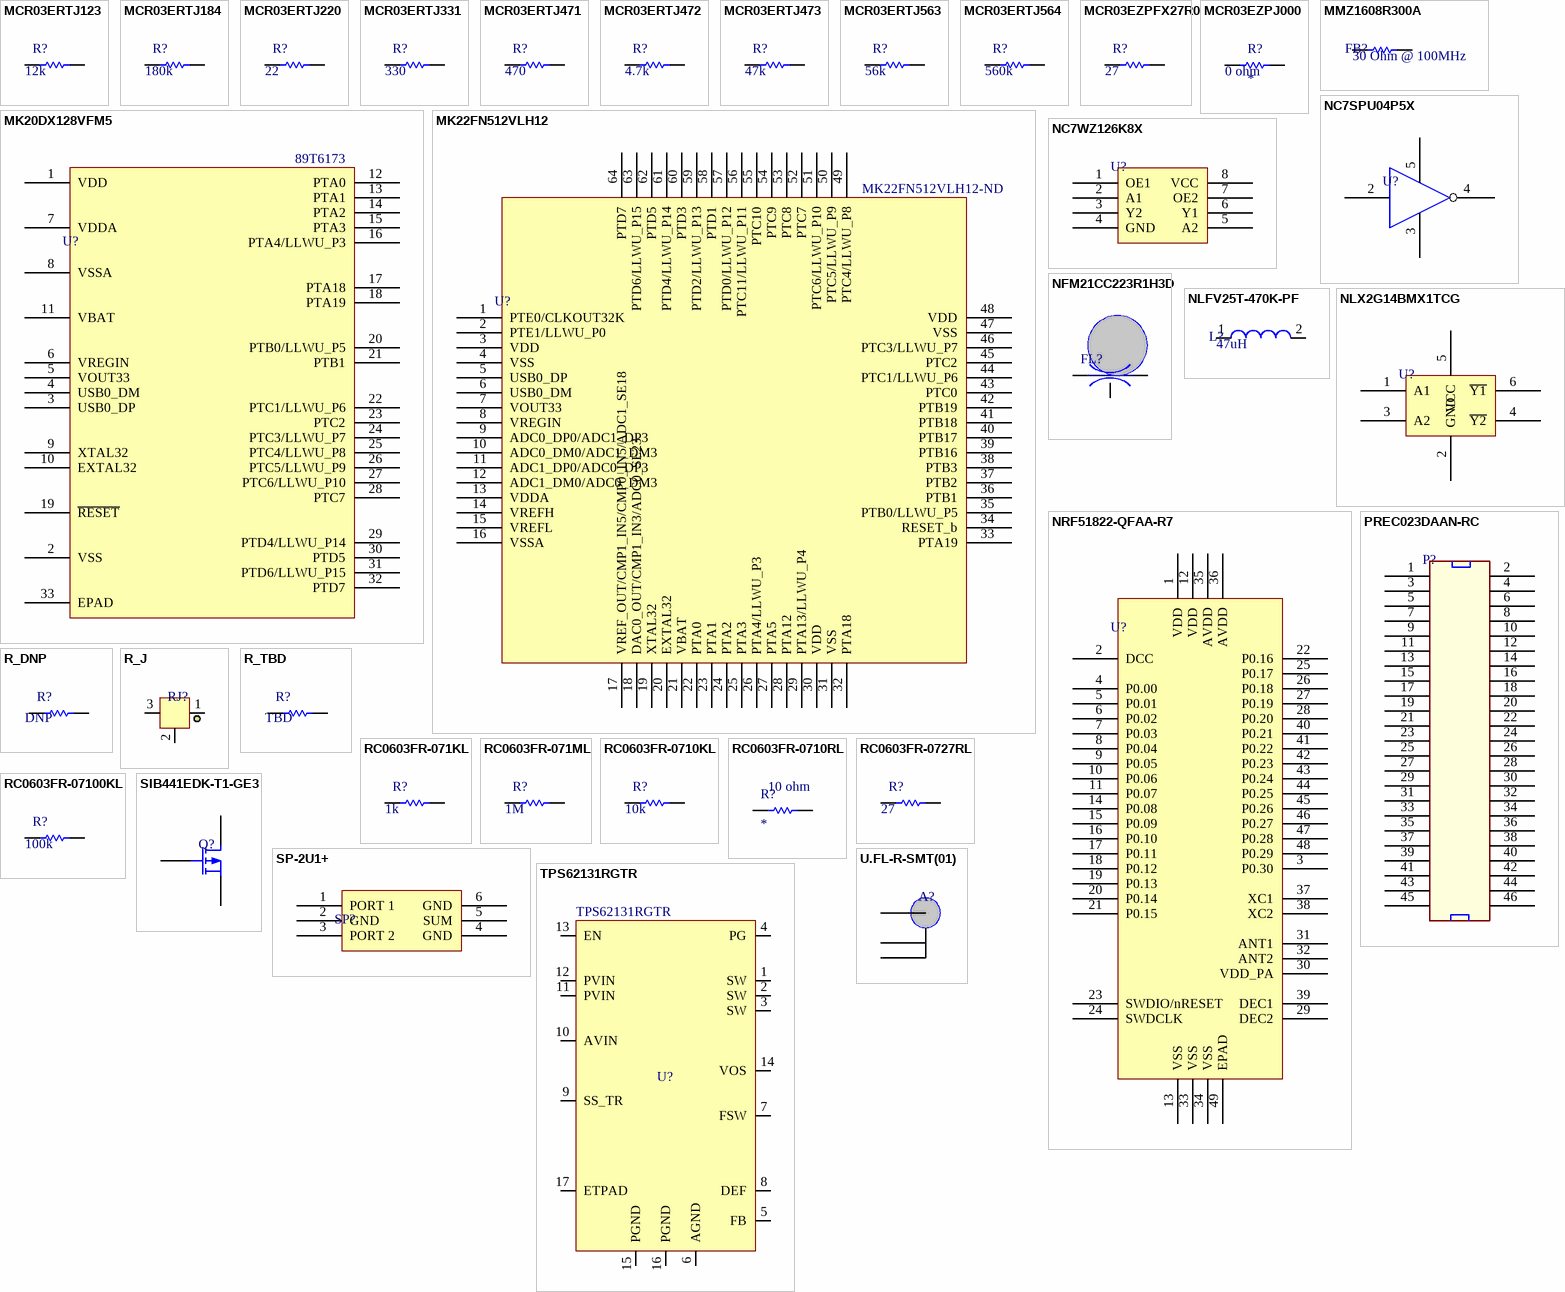
[diagram p3: symbols MCR03ERTJ123 to U.FL-R-SMT(01)]

## MCR03ERTJ123
designator R?  (value not drawn)
RES 12K OHM 1/10W 5% 0603 SMD; Manufacturer: Rohm Semiconductor; Manufacturer Part Number: MCR03ERTJ123; Power (Watts): 0.1W, 1/10W; Temperature Coefficient: ±200ppm/°C; Supplier 1: Digi-Key; RoHS: RoHS Compliant; Category: Resistors; Stock 1: 0; Pricing 1: 5000=0.00122, 10000=0.00106, 25000=0.00093, 50000=0.00085, 125000=0.00083 (USD); Packaging: Tape & Reel (TR); Resistance (Ohms): 12k; Tolerance: ±5%; Composition: Thick Film; Features: -; Operating Temperature: -55°C ~ 155°C; Package / Case: 0603 (1608 Metric); Supplier Device Package: 0603 (1608 Metric); Size / Dimension: 0.063" L x 0.031" W (1.60mm x 0.80mm); Height: 0.022" (0.55mm); Number of Terminations: 2; ComponentLink1URL: http://rohmfs.rohm.com/en/products/databook/datasheet/passive/resistor/chip_resistor/mcr_g.pdf; ComponentLink1Description: http://rohmfs.rohm.com/en/products/databook/datasheet/passive/resistor/chip_resistor/mcr_g.pdf
footprint RESC1608X06N (0603) (Chip Resistor, 2-Leads, Body 1.60x0.80mm, IPC Medium Density)
pins: 1, 2

## MCR03ERTJ184
designator R?  (value not drawn)
RES 180K OHM 1/10W 5% 0603 SMD; Manufacturer: Rohm Semiconductor; Manufacturer Part Number: MCR03ERTJ184; Power (Watts): 0.1W, 1/10W; Temperature Coefficient: ±200ppm/°C; Supplier 1: Digi-Key; RoHS: RoHS Compliant; Category: Resistors; Stock 1: 5000; Pricing 1: 5000=0.00122, 10000=0.00106, 25000=0.00093, 50000=0.00085, 125000=0.00083 (USD); Packaging: Tape & Reel (TR); Resistance (Ohms): 180k; Tolerance: ±5%; Composition: Thick Film; Features: -; Operating Temperature: -55°C ~ 155°C; Package / Case: 0603 (1608 Metric); Supplier Device Package: 0603 (1608 Metric); Size / Dimension: 0.063" L x 0.031" W (1.60mm x 0.80mm); Height: 0.022" (0.55mm); Number of Terminations: 2; ComponentLink1URL: http://rohmfs.rohm.com/en/products/databook/datasheet/passive/resistor/chip_resistor/mcr_g.pdf; ComponentLink1Description: http://rohmfs.rohm.com/en/products/databook/datasheet/passive/resistor/chip_resistor/mcr_g.pdf
footprint RESC1608X06N (0603) (Chip Resistor, 2-Leads, Body 1.60x0.80mm, IPC Medium Density)
pins: 1, 2

## MCR03ERTJ220
designator R?  (value not drawn)
RES 22 OHM 1/10W 5% 0603 SMD; Manufacturer: Rohm Semiconductor; Manufacturer Part Number: MCR03ERTJ220; Resistance (Ohms): 22; Power (Watts): 0.1W, 1/10W; Temperature Coefficient: ±200ppm/°C; Supplier 1: Digi-Key; RoHS: RoHS Compliant; Category: Resistors; Stock 1: 12808; Pricing 1: 1=0.1, 10=0.013, 25=0.0092, 100=0.0052, 250=0.00396, 500=0.00316, 1000=0.00233 (USD); Packaging: Cut Tape (CT); Tolerance: ±5%; Composition: Thick Film; Features: -; Package / Case: 0603 (1608 Metric); Supplier Device Package: 0603 (1608 Metric); Size / Dimension: 0.063" L x 0.031" W (1.60mm x 0.80mm); Height: 0.022" (0.55mm); Number of Terminations: 2; ComponentLink1URL: http://rohmfs.rohm.com/en/products/databook/datasheet/passive/resistor/chip_resistor/mcr_g.pdf; ComponentLink1Description: http://rohmfs.rohm.com/en/products/databook/datasheet/passive/resistor/chip_resistor/mcr_g.pdf
footprint RESC1608X06N (0603) (Chip Resistor, 2-Leads, Body 1.60x0.80mm, IPC Medium Density)
pins: 1, 2

## MCR03ERTJ331
designator R?  (value not drawn)
RES 330 OHM 1/10W 5% 0603 SMD; Manufacturer: Rohm Semiconductor; Manufacturer Part Number: MCR03ERTJ331; Resistance (Ohms): 330; Power (Watts): 0.1W, 1/10W; Temperature Coefficient: ±200ppm/°C; Supplier 1: Digi-Key; RoHS: RoHS Compliant; Category: Resistors; Stock 1: 12878; Pricing 1: 1=0.1, 10=0.013, 25=0.0092, 100=0.0052, 250=0.00396, 500=0.00316, 1000=0.00233 (USD); Packaging: Digi-Reel®; Tolerance: ±5%; Composition: Thick Film; Features: -; Package / Case: 0603 (1608 Metric); Supplier Device Package: 0603 (1608 Metric); Size / Dimension: 0.063" L x 0.031" W (1.60mm x 0.80mm); Height: 0.022" (0.55mm); Number of Terminations: 2; ComponentLink1URL: http://rohmfs.rohm.com/en/products/databook/datasheet/passive/resistor/chip_resistor/mcr_g.pdf; ComponentLink1Description: http://rohmfs.rohm.com/en/products/databook/datasheet/passive/resistor/chip_resistor/mcr_g.pdf
footprint RESC1608X06N (0603) (Chip Resistor, 2-Leads, Body 1.60x0.80mm, IPC Medium Density)
pins: 1, 2

## MCR03ERTJ471
designator R?  (value not drawn)
RES 470 OHM 1/10W 5% 0603 SMD; Manufacturer: Rohm Semiconductor; Manufacturer Part Number: MCR03ERTJ471; Resistance (Ohms): 470; Power (Watts): 0.1W, 1/10W; Temperature Coefficient: ±200ppm/°C; Supplier 1: Digi-Key; RoHS: RoHS Compliant; Category: Resistors; Stock 1: 30000; Pricing 1: 5000=0.00152, 10000=0.00132, 25000=0.00116, 50000=0.00106, 125000=0.00104 (USD); Packaging: Tape & Reel (TR); Tolerance: ±5%; Composition: Thick Film; Features: -; Package / Case: 0603 (1608 Metric); Supplier Device Package: 0603 (1608 Metric); Size / Dimension: 0.063" L x 0.031" W (1.60mm x 0.80mm); Height: 0.022" (0.55mm); Number of Terminations: 2; ComponentLink1URL: http://rohmfs.rohm.com/en/products/databook/datasheet/passive/resistor/chip_resistor/mcr_g.pdf; ComponentLink1Description: http://rohmfs.rohm.com/en/products/databook/datasheet/passive/resistor/chip_resistor/mcr_g.pdf
footprint RESC1608X06N (0603) (Chip Resistor, 2-Leads, Body 1.60x0.80mm, IPC Medium Density)
pins: 1, 2

## MCR03ERTJ472
designator R?  (value not drawn)
RES 4.7K OHM 1/10W 5% 0603 SMD; Manufacturer: Rohm Semiconductor; Manufacturer Part Number: MCR03ERTJ472; Power (Watts): 0.1W, 1/10W; Temperature Coefficient: ±200ppm/°C; Supplier 1: Digi-Key; RoHS: RoHS Compliant; Category: Resistors; Stock 1: 60000; Pricing 1: 5000=0.00122, 10000=0.00106, 25000=0.00093, 50000=0.00085, 125000=0.00083 (USD); Packaging: Tape & Reel (TR); Resistance (Ohms): 4.7k; Tolerance: ±5%; Composition: Thick Film; Features: -; Operating Temperature: -55°C ~ 155°C; Package / Case: 0603 (1608 Metric); Supplier Device Package: 0603 (1608 Metric); Size / Dimension: 0.063" L x 0.031" W (1.60mm x 0.80mm); Height: 0.022" (0.55mm); Number of Terminations: 2; ComponentLink1URL: http://rohmfs.rohm.com/en/products/databook/datasheet/passive/resistor/chip_resistor/mcr_g.pdf; ComponentLink1Description: http://rohmfs.rohm.com/en/products/databook/datasheet/passive/resistor/chip_resistor/mcr_g.pdf
footprint RESC1608X06N (0603) (Chip Resistor, 2-Leads, Body 1.60x0.80mm, IPC Medium Density)
pins: 1, 2

## MCR03ERTJ473
designator R?  (value not drawn)
RES 47K OHM 1/10W 5% 0603 SMD; Manufacturer: Rohm Semiconductor; Manufacturer Part Number: MCR03ERTJ473; Power (Watts): 0.1W, 1/10W; Temperature Coefficient: ±200ppm/°C; Supplier 1: Digi-Key; RoHS: RoHS Compliant; Category: Resistors; Stock 1: 15000; Pricing 1: 5000=0.00122, 10000=0.00106, 25000=0.00093, 50000=0.00085, 125000=0.00083 (USD); Packaging: Tape & Reel (TR); Resistance (Ohms): 47k; Tolerance: ±5%; Composition: Thick Film; Features: -; Operating Temperature: -55°C ~ 155°C; Package / Case: 0603 (1608 Metric); Supplier Device Package: 0603 (1608 Metric); Size / Dimension: 0.063" L x 0.031" W (1.60mm x 0.80mm); Height: 0.022" (0.55mm); Number of Terminations: 2; ComponentLink1URL: http://rohmfs.rohm.com/en/products/databook/datasheet/passive/resistor/chip_resistor/mcr_g.pdf; ComponentLink1Description: http://rohmfs.rohm.com/en/products/databook/datasheet/passive/resistor/chip_resistor/mcr_g.pdf
footprint RESC1608X06N (0603) (Chip Resistor, 2-Leads, Body 1.60x0.80mm, IPC Medium Density)
pins: 1, 2

## MCR03ERTJ563
designator R?  (value not drawn)
RES 56K OHM 1/10W 5% 0603 SMD; Manufacturer: Rohm Semiconductor; Manufacturer Part Number: MCR03ERTJ563; Power (Watts): 0.1W, 1/10W; Temperature Coefficient: ±200ppm/°C; Supplier 1: Digi-Key; RoHS: RoHS Compliant; Category: Resistors; Stock 1: 5000; Pricing 1: 5000=0.00184, 10000=0.0016, 25000=0.00144, 50000=0.00128, 125000=0.00106 (USD); Packaging: Tape & Reel (TR); Resistance (Ohms): 56k; Tolerance: ±5%; Composition: Thick Film; Features: -; Package / Case: 0603 (1608 Metric); Supplier Device Package: 0603 (1608 Metric); Size / Dimension: 0.063" L x 0.031" W (1.60mm x 0.80mm); Height: 0.022" (0.55mm); Number of Terminations: 2; ComponentLink1URL: http://rohmfs.rohm.com/en/products/databook/datasheet/passive/resistor/chip_resistor/mcr_g.pdf; ComponentLink1Description: http://rohmfs.rohm.com/en/products/databook/datasheet/passive/resistor/chip_resistor/mcr_g.pdf
footprint RESC1608X06N (0603) (Chip Resistor, 2-Leads, Body 1.60x0.80mm, IPC Medium Density)
pins: 1, 2

## MCR03ERTJ564
designator R?  (value not drawn)
RES 560K OHM 1/10W 5% 0603 SMD; Manufacturer: Rohm Semiconductor; Manufacturer Part Number: MCR03ERTJ564; Power (Watts): 0.1W, 1/10W; Temperature Coefficient: ±200ppm/°C; Supplier 1: Digi-Key; RoHS: RoHS Compliant; Category: Resistors; Stock 1: 13900; Pricing 1: 1=0.1, 10=0.011, 25=0.0104, 100=0.0074, 250=0.00436, 500=0.00362, 1000=0.00247 (USD); Packaging: Cut Tape (CT); Resistance (Ohms): 560k; Tolerance: ±5%; Composition: Thick Film; Features: -; Package / Case: 0603 (1608 Metric); Supplier Device Package: 0603 (1608 Metric); Size / Dimension: 0.063" L x 0.031" W (1.60mm x 0.80mm); Height: 0.022" (0.55mm); Number of Terminations: 2; ComponentLink1URL: http://rohmfs.rohm.com/en/products/databook/datasheet/passive/resistor/chip_resistor/mcr_g.pdf; ComponentLink1Description: http://rohmfs.rohm.com/en/products/databook/datasheet/passive/resistor/chip_resistor/mcr_g.pdf
footprint RESC1608X06N (0603) (Chip Resistor, 2-Leads, Body 1.60x0.80mm, IPC Medium Density)
pins: 1, 2

## MCR03EZPFX27R0
designator R?  (value not drawn)
RES 27 OHM 1/10W 1% 0603 SMD; Manufacturer: Rohm Semiconductor; Manufacturer Part Number: MCR03EZPFX27R0; Resistance (Ohms): 27; Power (Watts): 0.1W, 1/10W; Temperature Coefficient: ±100ppm/°C; Supplier 1: Digi-Key; RoHS: RoHS Compliant; Category: Resistors; Stock 1: 0; Pricing 1: 5000=0.00285 (USD); Packaging: Tape & Reel (TR); Tolerance: ±1%; Composition: Thick Film; Features: Automotive AEC-Q200 Qualified; Package / Case: 0603 (1608 Metric); Supplier Device Package: 0603 (1608 Metric); Size / Dimension: 0.063" L x 0.031" W (1.60mm x 0.80mm); Height: 0.022" (0.55mm); Number of Terminations: 2; ComponentLink1URL: http://rohmfs.rohm.com/en/products/databook/datasheet/passive/resistor/chip_resistor/mcr_a.pdf; ComponentLink1Description: http://rohmfs.rohm.com/en/products/databook/datasheet/passive/resistor/chip_resistor/mcr_a.pdf
footprint RESC1608X06N (0603) (Chip Resistor, 2-Leads, Body 1.60x0.80mm, IPC Medium Density)
pins: 1, 2

## MCR03EZPJ000
designator R?  value 0 ohm
RES SMD 0.0OHM JUMPER 1/10W 0603; Manufacturer: Rohm Semiconductor; Manufacturer Part Number: MCR03EZPJ000; Resistance (Ohms): 0.0; Power (Watts): 0.1W, 1/10W; Supplier 1: Digi-Key; RoHS: RoHS Compliant; Category: Resistors; Stock 1: 92999; Pricing 1: 1=0.1, 10=0.015, 25=0.0112, 100=0.0062, 250=0.00476, 500=0.0038, 1000=0.0028 (USD); Packaging: Cut Tape (CT); Tolerance: Jumper; Composition: Thick Film; Features: -; Temperature Coefficient: -; Operating Temperature: -55°C ~ 155°C; Package / Case: 0603 (1608 Metric); Supplier Device Package: 0603 (1608 Metric); Size / Dimension: 0.063" L x 0.031" W (1.60mm x 0.80mm); Height: 0.022" (0.55mm); Number of Terminations: 2; ComponentLink1URL: http://rohmfs.rohm.com/en/products/databook/datasheet/passive/resistor/chip_resistor/mcr.pdf; ComponentLink1Description: http://rohmfs.rohm.com/en/products/databook/datasheet/passive/resistor/chip_resistor/mcr.pdf
footprint RESC1608X06N (0603) (Chip Resistor, 2-Leads, Body 1.60x0.80mm, IPC Medium Density)
pins: 1, 2

## MK20DX128VFM5
designator U?  Supplier Part Number 1: 89T6173  (hidden comment: *)
FREESCALE SEMICONDUCTOR - MK20DX128VFM5 - MCU, 32BIT, CORTEX-M4, 50MHZ, QFN-32; Architecture: ARM Cortex-M4; Program Memory Size: 128; RAM Memory Size: 16; CPU Speed: 50; No. of I/O's: 20; MCU Case Style: QFN; No. of Pins: 32; Embedded Interface Type: I2; Supplier 1: Newark; Manufacturer: FREESCALE SEMICONDUCTOR; Manufacturer Part Number: MK20DX128VFM5; RoHS: YES; Stock 1: 0; Pricing 1: 490=2.57 (USD); ComponentLink1URL: http://www.farnell.com/datasheets/1605598.pdf; ComponentLink1Description: http://www.farnell.com/datasheets/1605598.pdf; ComponentLink2URL: http://www.farnell.com/datasheets/1635247.pdf; ComponentLink2Description: http://www.farnell.com/datasheets/1635247.pdf; ComponentLink3URL: http://www.farnell.com/cad/1764950.zip; ComponentLink3Description: http://www.farnell.com/cad/1764950.zip
footprint QFN50P500X500X100_HS-33N (QFN, 32-Leads, Body 5.00x5.00mm, Pitch 0.50mm, Thermal Pad 3.60x3.60mm, IPC Medium Density)
pins: 1 VDD, 2 VSS, 3 USB0_DP, 4 USB0_DM, 5 VOUT33, 6 VREGIN, 7 VDDA, 8 VSSA, 9 XTAL32, 10 EXTAL32, 11 VBAT, 12 PTA0, 13 PTA1, 14 PTA2, 15 PTA3, 16 PTA4/LLWU_P3, 17 PTA18, 18 PTA19, 19 ~{RESET}, 20 PTB0/LLWU_P5, 21 PTB1, 22 PTC1/LLWU_P6, 23 PTC2, 24 PTC3/LLWU_P7, 25 PTC4/LLWU_P8, 26 PTC5/LLWU_P9, 27 PTC6/LLWU_P10, 28 PTC7, 29 PTD4/LLWU_P14, 30 PTD5, 31 PTD6/LLWU_P15, 32 PTD7, 33 EPAD

## MK22FN512VLH12
designator U?  Supplier Part Number 1: MK22FN512VLH12-ND  (hidden comment: *)
IC MCU ARM 512KB FLASH 64LQFP; Manufacturer: Freescale Semiconductor; Manufacturer Part Number: MK22FN512VLH12; Core Processor: ARM® Cortex®-M4; Core Size: 32-Bit; Speed: 120MHz; Connectivity: I²C, IrDA, SPI, UART/USART, USB, USB OTG; Peripherals: DMA, I²S, LVD, POR, PWM, WDT; Number of I/O: 40; Program Memory Size: 512KB (512K x 8); RAM Size: 128K x 8; Voltage - Supply (Vcc/Vdd): 1.71 V ~ 3.6 V; Data Converters: A/D 2x16b, D/A 2x12b; Oscillator Type: Internal; Supplier 1: Digi-Key; RoHS: RoHS Compliant; Category: Integrated Circuits (ICs); Stock 1: 142; Pricing 1: 1=7.69, 10=7.259, 25=6.832, 100=5.551 (USD); Packaging: Tray; Program Memory Type: FLASH; EEPROM Size: -; Operating Temperature: -40°C ~ 105°C; Package / Case: 64-LQFP; Supplier Device Package: 64-LQFP (10x10); ComponentLink1URL: http://cache.freescale.com/files/microcontrollers/doc/data_sheet/K22P121M120SF7.pdf; ComponentLink1Description: http://cache.freescale.com/files/microcontrollers/doc/data_sheet/K22P121M120SF7.pdf
footprint TSQFP50P1200X1200X160-64N (TSQFP, 64-Leads, Body 10.00x10.00mm, Pitch 0.50mm, IPC Medium Density)
pins: 1 PTE0/CLKOUT32K, 2 PTE1/LLWU_P0, 3 VDD, 4 VSS, 5 USB0_DP, 6 USB0_DM, 7 VOUT33, 8 VREGIN, 9 ADC0_DP0/ADC1_DP3, 10 ADC0_DM0/ADC1_DM3, 11 ADC1_DP0/ADC0_DP3, 12 ADC1_DM0/ADC0_DM3, 13 VDDA, 14 VREFH, 15 VREFL, 16 VSSA, 17 VREF_OUT/CMP1_IN5/CMP0_IN5/ADC1_SE18, 18 DAC0_OUT/CMP1_IN3/ADC0_SE23, 19 XTAL32, 20 EXTAL32, 21 VBAT, 22 PTA0, 23 PTA1, 24 PTA2, 25 PTA3, 26 PTA4/LLWU_P3, 27 PTA5, 28 PTA12, 29 PTA13/LLWU_P4, 30 VDD, 31 VSS, 32 PTA18, 33 PTA19, 34 RESET_b, 35 PTB0/LLWU_P5, 36 PTB1, 37 PTB2, 38 PTB3, 39 PTB16, 40 PTB17, 41 PTB18, 42 PTB19, 43 PTC0, 44 PTC1/LLWU_P6, 45 PTC2, 46 PTC3/LLWU_P7, 47 VSS, 48 VDD, 49 PTC4/LLWU_P8, 50 PTC5/LLWU_P9, 51 PTC6/LLWU_P10, 52 PTC7, 53 PTC8, 54 PTC9, 55 PTC10, 56 PTC11/LLWU_P11, 57 PTD0/LLWU_P12, 58 PTD1, 59 PTD2/LLWU_P13, 60 PTD3, 61 PTD4/LLWU_P14, 62 PTD5, 63 PTD6/LLWU_P15, 64 PTD7

## MMZ1608R300A
designator FB?  Impedance @ Frequency: 30 Ohm @ 100MHz  (hidden comment: *)
FERRITE CHIP BEAD 30 OHM SMD; Manufacturer: TDK Corporation; Manufacturer Part Number: MMZ1608R300ATA00; Current Rating: 1.5A; DC Resistance (DCR): 50 mOhm Max; Filter Type: Differential Mode - Single; Supplier 1: Digi-Key; RoHS: RoHS Compliant; Category: Filters; Stock 1: 52000; Pricing 1: 4000=0.016, 8000=0.0145, 12000=0.014, 28000=0.013, 100000=0.01285 (USD); Package / Case: 0603 (1608 Metric); Mounting Type: Surface Mount; Packaging: Tape & Reel (TR); Height (Max): 0.037" (0.95mm); Size / Dimension: 0.063" L x 0.031" W (1.60mm x 0.80mm); ComponentLink1URL: http://www.tdk.co.jp/tefe02/e9412_mmz.pdf; ComponentLink1Description: http://www.tdk.co.jp/tefe02/e9412_mmz.pdf; Supplier Part Number 1: 445-2181-2-ND
footprint RESC1608X06N (0603) (Chip Resistor, 2-Leads, Body 1.60x0.80mm, IPC Medium Density)
pins: 1, 2

## NC7SPU04P5X
designator U?  (value not drawn)
IC INVERTER ULP UNBUFF SC70-5; Manufacturer: Fairchild Semiconductor; Manufacturer Part Number: NC7SPU04P5X; Number of Circuits: 1; Voltage - Supply: 0.9 V ~ 3.6 V; Current - Quiescent (Max): 0.9µA; Current - Output High, Low: 2.6mA, 2.6mA; Max Propagation Delay @ V, Max CL: 9.2ns @ 3.3V, 30pF; Supplier 1: Digi-Key; RoHS: RoHS Compliant; Category: Integrated Circuits (ICs); Stock 1: 24000; Pricing 1: 3000=0.0798, 6000=0.07182, 15000=0.06384, 30000=0.05985, 75000=0.05307, 150000=0.05107 (USD); Packaging: Tape & Reel (TR); Logic Type: Inverter; Number of Inputs: 1; Features: -; Logic Level - Low: -; Logic Level - High: -; Operating Temperature: -40°C ~ 85°C; Mounting Type: Surface Mount; Supplier Device Package: SC-70-5; Package / Case: 6-TSSOP (5 Lead), SC-88A, SOT-353; ComponentLink1URL: http://www.fairchildsemi.com/ds/NC/NC7SPU04.pdf; ComponentLink1Description: http://www.fairchildsemi.com/ds/NC/NC7SPU04.pdf
footprint SC70 (TSOP, 6-Leads, Body 2.00x1.25mm, Pitch 0.65mm, IPC Medium Density)
pins: 1 hidden, 2, 3, 4, 5

## NC7WZ126K8X
designator U?  (value not drawn)
IC BUFFER UHS DUAL 3ST US8; Manufacturer: Fairchild Semiconductor; Manufacturer Part Number: NC7WZ126K8X; Logic Type: Buffer/Line Driver, Non-Inverting; Number of Elements: 2; Number of Bits per Element: 1; Current - Output High, Low: 32mA, 32mA; Voltage - Supply: 1.65 V ~ 5.5 V; Supplier 1: Digi-Key; RoHS: RoHS Compliant; Category: Integrated Circuits (ICs); Stock 1: 3000; Pricing 1: 3000=0.13002, 6000=0.12214, 15000=0.11426, 30000=0.1048, 75000=0.10086, 150000=0.09692 (USD); Packaging: Tape & Reel (TR); Operating Temperature: -40°C ~ 85°C; Mounting Type: Surface Mount; Package / Case: 8-VFSOP (0.091", 2.30mm Width); Supplier Device Package: US8; ComponentLink1URL: http://www.fairchildsemi.com/ds/NC/NC7WZ126.pdf; ComponentLink1Description: http://www.fairchildsemi.com/ds/NC/NC7WZ126.pdf
footprint US8 (US8, 8-Leads, Body 2.00x2.30mm, Pitch 0.50mm, IPC Medium Density)
pins: 1 OE1, 2 A1, 3 Y2, 4 GND, 5 A2, 6 Y1, 7 OE2, 8 VCC

## NFM21CC223R1H3D
designator FL?  (value not drawn)
FILTER LC HIGH FREQ 22000PF 0805; Manufacturer: Murata Electronics North America; Manufacturer Part Number: NFM21CC223R1H3D; Capacitance: 0.022µF; Voltage: 50V; Current: 2A; DC Resistance (DCR): 30 mOhm Max; Supplier 1: Digi-Key; RoHS: RoHS Compliant; Category: Filters; Stock 1: 4000; Pricing 1: 4000=0.12353, 8000=0.11438 (USD); Packaging: Tape & Reel (TR); Operating Temperature: -55°C ~ 125°C; Package / Case: 0805 (2012 Metric), 3 PC Pad; Height (Max): 0.037" (0.95mm); Size / Dimension: 0.079" L x 0.049" W (2.00mm x 1.25mm); Thread Size: -; ComponentLink1URL: http://search.murata.co.jp/Ceramy/image/img/PDF/ENG/L0111S0109NFM21C.pdf; ComponentLink1Description: http://search.murata.co.jp/Ceramy/image/img/PDF/ENG/L0111S0109NFM21C.pdf
footprint NFM21C (EMI, 2-Leads, Body 2.00x1.25mm, IPC Medium Density)
pins: 1, 2, 3

## NLFV25T-470K-PF
designator L?  (value not drawn)
INDUCTOR SHIELD 47UH 10% 252018; Manufacturer: TDK Corporation; Manufacturer Part Number: NLFV25T-470K-PF; Inductance: 47µH; Current: 60mA; Shielding: Shielded; DC Resistance (DCR): 1.7 Ohm; Q @ Freq: 10 @ 2.52MHz; Frequency - Self Resonant: 11MHz; Frequency - Test: 2.52MHz; Supplier 1: Digi-Key; RoHS: RoHS Compliant; Category: Inductors, Coils, Chokes; Stock 1: 4154; Pricing 1: 1=0.3, 10=0.27, 50=0.21, 100=0.195, 500=0.171, 1000=0.138 (USD); Current - Saturation: -; Current - Temperature Rise: -; Type: -; Tolerance: ±10%; Applications: Power Line; Material - Core: -; Package / Case: 0.098" L x 0.079" W x 0.071" H (2.50 mm x 2.00mm x 1.80mm); Mounting Type: Surface Mount; Packaging: Digi-Reel®; Operating Temperature: -40°C ~ 105°C; ComponentLink1URL: http://www.tdk.co.jp/tefe02/e511_nl_02.pdf; ComponentLink1Description: http://www.tdk.co.jp/tefe02/e511_nl_02.pdf
footprint INDC2520X19N (Chip Inductor, 2-Leads, Body 2.5x2.0mm, IPC Medium Density)
pins: 1, 2
text: 47uH